# Altium integrated library RES 0603 5%.IntLib: 3 symbols
Pins are listed as number, name and electrical type; pins without a type are passive.

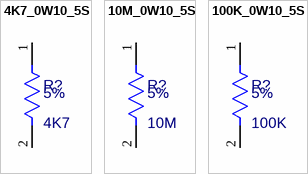
[diagram p0: symbols 4K7_0W10_5S to 100K_0W10_5S]

## 4K7_0W10_5S
designator R?, comment value 4K7  Tolerance: 5%  (hidden comment: RXF4K7000/JZR)
Resistor, 4K7; Power Rating: 0W10; ECAD_Revision: 1; Librariain: UK; PartNumber: RXF4K7000/JZR; Item: *
footprint R0603
pins: 1, 2

## 10M_0W10_5S
designator R?, comment value 10M  Tolerance: 5%  (hidden comment: RXF10M000/JZR)
Resistor, 10M; Power Rating: 0W10; ECAD_Revision: 1; Librarian: UK; PartNumber: RXF10M000/JZR; Item: *
footprint R0603
pins: 1, 2

## 100K_0W10_5S
designator R?, comment value 100K  Tolerance: 5%  (hidden comment: RXF100K00/JZR)
Resistor, 100K; Power Rating: 0W10; ECAD_Revision: 1; Librarian: UK; PartNumber: RXF100K00/JZR; Item: *
simulation model RESISTOR
footprint R0603
signal-integrity model Res
pins: 1, 2